# Altium schematic symbol library Logic.SchLib: 13 symbols (part 2 of 4)
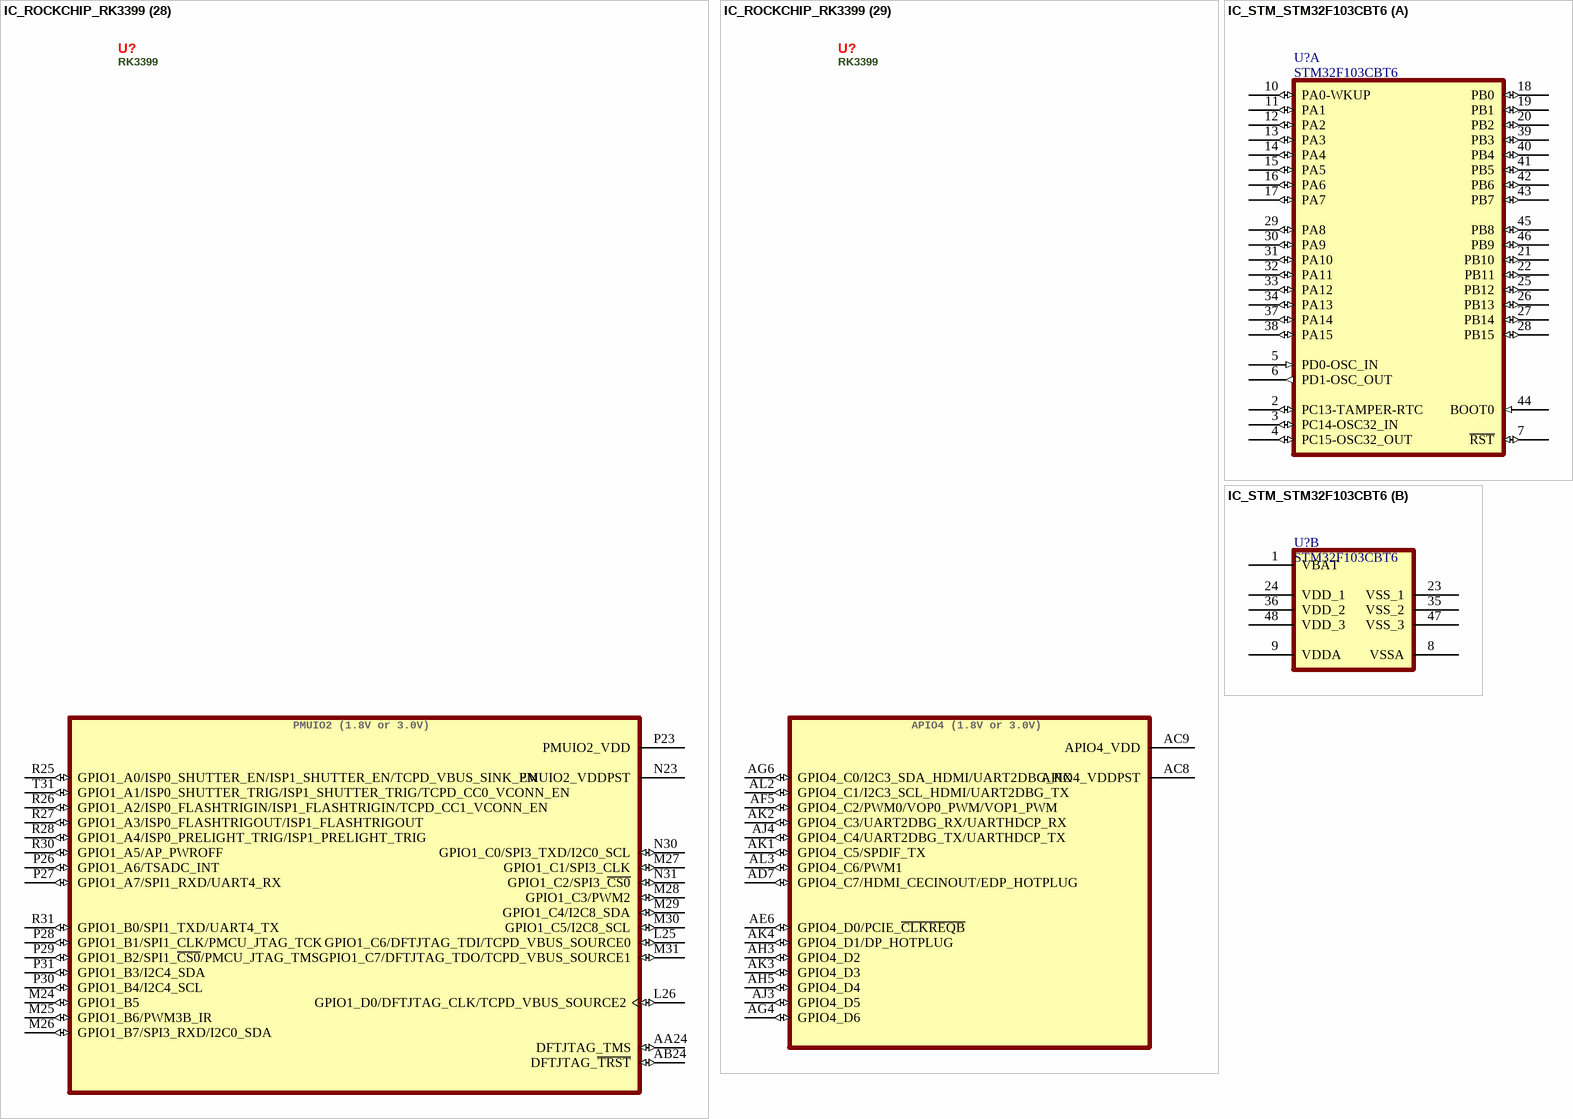
[diagram p9: symbols IC_ROCKCHIP_RK3399 to IC_STM_STM32F103CBT6]
## IC_ROCKCHIP_RK3399
designator U?, comment RK3399
ARM® Cortex®-A72 dual-core and A53 quad-core Microcontroller; Manufacturer: Fuzhou Rockchip Electronics; Core Architecture: ARM; Manufacturer Part Number: RK3399; Case/Package: 828-FCBGA; Category: Microcontrollers; ComponentLink1Description: Datasheet; ComponentLink1URL: https://rockchip.fr/RK3399%20datasheet%20V1.8.pdf; ComponentLink2Description: Design Guide; ComponentLink2URL: https://opensource.rock-chips.com/images/d/d1/RK3399_Design_Guide_V1.0_20170420.pdf; ComponentLink3Description: Datasheet (Local); ComponentLink3URL: C:\Users\Public\Documents\Altium\Projects\My-PCB-Library\Datasheets\RK3399 datasheet V1.8.pdf; ComponentLink4Description: Design Guide (Local); ComponentLink4URL: C:\Users\Public\Documents\Altium\Projects\My-PCB-Library\Datasheets\RK3399_Design_Guide_V1.0_20170420.pdf; Max Operating Temperature: 85°C
footprint BGA828C65P31X31_2102X2102X161 (BGA, 828-Leads, Body 21.03x21.03mmx1.61mm, Pitch 0.65mm)
part A pins: K19 BIGCPU_VDD_12 (power) "Internal BIG CPU A72 Power", K21 BIGCPU_VDD_13 (power) "Internal BIG CPU A72 Power", L18 BIGCPU_VDD_8 (power) "Internal BIG CPU A72 Power", L19 BIGCPU_VDD_1 (power) "Internal BIG CPU A72 Power", L21 BIGCPU_VDD_2 (power) "Internal BIG CPU A72 Power", L23 BIGCPU_VDD_11 (power) "Internal BIG CPU A72 Power", M18 BIGCPU_VDD_3 (power) "Internal BIG CPU A72 Power", M19 BIGCPU_VDD_4 (power) "Internal BIG CPU A72 Power", M20 BIGCPU_VDD_5 (power) "Internal BIG CPU A72 Power", M21 BIGCPU_VDD_6 (power) "Internal BIG CPU A72 Power", M22 BIGCPU_VDD_7 (power) "Internal BIG CPU A72 Power", N18 BIGCPU_VDD_COM (power) "Internal BIG CPU A72 Power", N20 BIGCPU_VDD_10 (power) "Internal BIG CPU A72 Power", N22 BIGCPU_VDD_9 (power) "Internal BIG CPU A72 Power"
part B pins: P20 LITCPU_VDD_1 (power) "Internal  LITTLE CPU A53 Power", P22 LITCPU_VDD_4 (power) "Internal  LITTLE CPU A53 Power", R19 LITCPU_VDD_2 (power) "Internal  LITTLE CPU A53 Power", R20 LITCPU_VDD_3 (power) "Internal  LITTLE CPU A53 Power", R22 LITCPU_VDD_7 (power) "Internal  LITTLE CPU A53 Power", T20 LITCPU_VDD_6 (power) "Internal  LITTLE CPU A53 Power", T22 LITCPU_VDD_5 (power) "Internal  LITTLE CPU A53 Power"
part C pins: R11 GPU_VDD_8 (power) "Internal GPU Power", R12 GPU_VDD_9 (power) "Internal GPU Power", R13 GPU_VDD_13 (power) "Internal GPU Power", T11 GPU_VDD_10 (power) "Internal GPU Power", T12 GPU_VDD_11 (power) "Internal GPU Power", T13 GPU_VDD_12 (power) "Internal GPU Power", T14 GPU_VDD_14 (power) "Internal GPU Power", T15 GPU_VDD_COM (power) "Internal GPU Power", U13 GPU_VDD_7 (power) "Internal GPU Power", V11 GPU_VDD_15 (power) "Internal GPU Power", V12 GPU_VDD_16 (power) "Internal GPU Power", V13 GPU_VDD_6 (power) "Internal GPU Power", V14 GPU_VDD_5 (power) "Internal GPU Power", V15 GPU_VDD_4 (power) "Internal GPU Power", V16 GPU_VDD_17 (power) "Internal GPU Power", W10 GPU_VDD_20 (power) "Internal GPU Power", W11 GPU_VDD_1 (power) "Internal GPU Power", W12 GPU_VDD_2 (power) "Internal GPU Power", W14 GPU_VDD_3 (power) "Internal GPU Power", W15 GPU_VDD_19 (power) "Internal GPU Power", W16 GPU_VDD_18 (power) "Internal GPU Power"
part D pins: L17 LOGIC_VDD_10 (power) "Internal Logic Power", M17 LOGIC_VDD_9 (power) "Internal Logic Power", T17 LOGIC_VDD_11 (power) "Internal Logic Power", U17 LOGIC_VDD_8 (power) "Internal Logic Power", U18 LOGIC_VDD_7 (power) "Internal Logic Power", U20 LOGIC_VDD_12 (power) "Internal Logic Power", V18 LOGIC_VDD_5 (power) "Internal Logic Power", V19 LOGIC_VDD_4 (power) "Internal Logic Power", V20 LOGIC_VDD_3 (power) "Internal Logic Power", V21 LOGIC_VDD_2 (power) "Internal Logic Power", V22 LOGIC_VDD_1 (power) "Internal Logic Power", W20 LOGIC_VDD_6 (power) "Internal Logic Power"
part E pins: M11 CENTERLOGIC_VDD_1 (power) "Internal Center Logic Power", M12 CENTERLOGIC_VDD_2 (power) "Internal Center Logic Power", M13 CENTERLOGIC_VDD_3 (power) "Internal Center Logic Power", M14 CENTERLOGIC_VDD_4 (power) "Internal Center Logic Power", M15 CENTERLOGIC_VDD_5 (power) "Internal Center Logic Power", N11 CENTERLOGIC_VDD_6 (power) "Internal Center Logic Power", N12 CENTERLOGIC_VDD_7 (power) "Internal Center Logic Power", P13 CENTERLOGIC_VDD_8 (power) "Internal Center Logic Power", P14 CENTERLOGIC_VDD_9 (power) "Internal Center Logic Power", P15 CENTERLOGIC_VDD_10 (power) "Internal Center Logic Power"
part F pins: A1 VSS_1 (power) "Internal Logic Ground and Digital IO Ground", A27 VSS_2 (power) "Internal Logic Ground and Digital IO Ground", A31 VSS_3 (power) "Internal Logic Ground and Digital IO Ground", AA3 VSS_4 (power) "Internal Logic Ground and Digital IO Ground", AA5 VSS_5 (power) "Internal Logic Ground and Digital IO Ground", AA9 VSS_6 (power) "Internal Logic Ground and Digital IO Ground", AA10 VSS_179 (power) "Internal Logic Ground and Digital IO Ground", AA13 VSS_177 (power) "Internal Logic Ground and Digital IO Ground", AB9 VSS_9 (power) "Internal Logic Ground and Digital IO Ground", AB19 VSS_140 (power) "Internal Logic Ground and Digital IO Ground", AC3 VSS_16 (power) "Internal Logic Ground and Digital IO Ground", AC18 VSS_145 (power) "Internal Logic Ground and Digital IO Ground", AC20 VSS_13 (power) "Internal Logic Ground and Digital IO Ground", AC21 VSS_132 (power) "Internal Logic Ground and Digital IO Ground", AC22 VSS_12 (power) "Internal Logic Ground and Digital IO Ground", AD3 VSS_17 (power) "Internal Logic Ground and Digital IO Ground", AD5 VSS_18 (power) "Internal Logic Ground and Digital IO Ground", AD10 VSS_19 (power) "Internal Logic Ground and Digital IO Ground", AD21 VSS_163 (power) "Internal Logic Ground and Digital IO Ground", AD22 VSS_11 (power) "Internal Logic Ground and Digital IO Ground", AE23 VSS_14 (power) "Internal Logic Ground and Digital IO Ground", AF9 VSS_20 (power) "Internal Logic Ground and Digital IO Ground", AF18 VSS_7 (power) "Internal Logic Ground and Digital IO Ground", AF20 VSS_10 (power) "Internal Logic Ground and Digital IO Ground", AG2 VSS_21 (power) "Internal Logic Ground and Digital IO Ground", AJ5 VSS_22 (power) "Internal Logic Ground and Digital IO Ground", AJ20 VSS_180 (power) "Internal Logic Ground and Digital IO Ground", AJ21 VSS_172 (power) "Internal Logic Ground and Digital IO Ground", AJ23 VSS_173 (power) "Internal Logic Ground and Digital IO Ground", AJ24 VSS_174 (power) "Internal Logic Ground and Digital IO Ground", AJ26 VSS_175 (power) "Internal Logic Ground and Digital IO Ground", AJ27 VSS_176 (power) "Internal Logic Ground and Digital IO Ground", AJ28 VSS_171 (power) "Internal Logic Ground and Digital IO Ground", AL1 VSS_23 (power) "Internal Logic Ground and Digital IO Ground", AL31 VSS_178 (power) "Internal Logic Ground and Digital IO Ground", B5 VSS_24 (power) "Internal Logic Ground and Digital IO Ground", C8 VSS_25 (power) "Internal Logic Ground and Digital IO Ground", C9 VSS_26 (power) "Internal Logic Ground and Digital IO Ground", C11 VSS_27 (power) "Internal Logic Ground and Digital IO Ground", C12 VSS_28 (power) "Internal Logic Ground and Digital IO Ground", C14 VSS_29 (power) "Internal Logic Ground and Digital IO Ground", C15 VSS_30 (power) "Internal Logic Ground and Digital IO Ground", C17 VSS_31 (power) "Internal Logic Ground and Digital IO Ground", C18 VSS_32 (power) "Internal Logic Ground and Digital IO Ground", C20 VSS_33 (power) "Internal Logic Ground and Digital IO Ground", C21 VSS_34 (power) "Internal Logic Ground and Digital IO Ground", C23 VSS_35 (power) "Internal Logic Ground and Digital IO Ground", C24 VSS_36 (power) "Internal Logic Ground and Digital IO Ground", C26 VSS_37 (power) "Internal Logic Ground and Digital IO Ground", D5 VSS_38 (power) "Internal Logic Ground and Digital IO Ground", E2 VSS_39 (power) "Internal Logic Ground and Digital IO Ground", E4 VSS_40 (power) "Internal Logic Ground and Digital IO Ground", E7 VSS_41 (power) "Internal Logic Ground and Digital IO Ground", E12 VSS_42 (power) "Internal Logic Ground and Digital IO Ground", E15 VSS_43 (power) "Internal Logic Ground and Digital IO Ground", E18 VSS_44 (power) "Internal Logic Ground and Digital IO Ground", E21 VSS_45 (power) "Internal Logic Ground and Digital IO Ground", E24 VSS_46 (power) "Internal Logic Ground and Digital IO Ground", E31 VSS_47 (power) "Internal Logic Ground and Digital IO Ground", F8 VSS_48 (power) "Internal Logic Ground and Digital IO Ground", F15 VSS_49 (power) "Internal Logic Ground and Digital IO Ground", F18 VSS_50 (power) "Internal Logic Ground and Digital IO Ground", F20 VSS_51 (power) "Internal Logic Ground and Digital IO Ground", F21 VSS_52 (power) "Internal Logic Ground and Digital IO Ground", G5 VSS_53 (power) "Internal Logic Ground and Digital IO Ground", G9 VSS_54 (power) "Internal Logic Ground and Digital IO Ground", G18 VSS_55 (power) "Internal Logic Ground and Digital IO Ground", G27 VSS_56 (power) "Internal Logic Ground and Digital IO Ground", H3 VSS_57 (power) "Internal Logic Ground and Digital IO Ground", H9 VSS_58 (power) "Internal Logic Ground and Digital IO Ground", H10 VSS_59 (power) "Internal Logic Ground and Digital IO Ground", H11 VSS_60 (power) "Internal Logic Ground and Digital IO Ground", H12 VSS_61 (power) "Internal Logic Ground and Digital IO Ground", H13 VSS_62 (power) "Internal Logic Ground and Digital IO Ground", H15 VSS_63 (power) "Internal Logic Ground and Digital IO Ground", H16 VSS_64 (power) "Internal Logic Ground and Digital IO Ground", H17 VSS_65 (power) "Internal Logic Ground and Digital IO Ground", H18 VSS_66 (power) "Internal Logic Ground and Digital IO Ground", H26 VSS_67 (power) "Internal Logic Ground and Digital IO Ground", J3 VSS_68 (power) "Internal Logic Ground and Digital IO Ground", J6 VSS_69 (power) "Internal Logic Ground and Digital IO Ground", J7 VSS_70 (power) "Internal Logic Ground and Digital IO Ground", J8 VSS_71 (power) "Internal Logic Ground and Digital IO Ground", J9 VSS_72 (power) "Internal Logic Ground and Digital IO Ground", J10 VSS_73 (power) "Internal Logic Ground and Digital IO Ground", K8 VSS_74 (power) "Internal Logic Ground and Digital IO Ground", K9 VSS_75 (power) "Internal Logic Ground and Digital IO Ground", K10 VSS_76 (power) "Internal Logic Ground and Digital IO Ground", K12 VSS_77 (power) "Internal Logic Ground and Digital IO Ground", K14 VSS_78 (power) "Internal Logic Ground and Digital IO Ground", K16 VSS_79 (power) "Internal Logic Ground and Digital IO Ground", K18 VSS_80 (power) "Internal Logic Ground and Digital IO Ground", K20 VSS_82 (power) "Internal Logic Ground and Digital IO Ground", K22 VSS_84 (power) "Internal Logic Ground and Digital IO Ground", L3 VSS_85 (power) "Internal Logic Ground and Digital IO Ground", L6 VSS_86 (power) "Internal Logic Ground and Digital IO Ground", L8 VSS_87 (power) "Internal Logic Ground and Digital IO Ground", L11 VSS_88 (power) "Internal Logic Ground and Digital IO Ground", L12 VSS_89 (power) "Internal Logic Ground and Digital IO Ground", L13 VSS_90 (power) "Internal Logic Ground and Digital IO Ground", L14 VSS_91 (power) "Internal Logic Ground and Digital IO Ground", L15 VSS_92 (power) "Internal Logic Ground and Digital IO Ground", L16 VSS_93 (power) "Internal Logic Ground and Digital IO Ground", L20 VSS_96 (power) "Internal Logic Ground and Digital IO Ground", L22 VSS_97 (power) "Internal Logic Ground and Digital IO Ground", L27 VSS_99 (power) "Internal Logic Ground and Digital IO Ground", M3 VSS_100 (power) "Internal Logic Ground and Digital IO Ground", M8 VSS_101 (power) "Internal Logic Ground and Digital IO Ground", M10 VSS_102 (power) "Internal Logic Ground and Digital IO Ground", M16 VSS_103 (power) "Internal Logic Ground and Digital IO Ground", M23 VSS_104 (power) "Internal Logic Ground and Digital IO Ground", N8 VSS_105 (power) "Internal Logic Ground and Digital IO Ground", N13 VSS_108 (power) "Internal Logic Ground and Digital IO Ground", N14 VSS_109 (power) "Internal Logic Ground and Digital IO Ground", N15 VSS_110 (power) "Internal Logic Ground and Digital IO Ground", N16 VSS_111 (power) "Internal Logic Ground and Digital IO Ground", N17 VSS_94 (power) "Internal Logic Ground and Digital IO Ground", N19 VSS_83 (power) "Internal Logic Ground and Digital IO Ground", N21 VSS_98 (power) "Internal Logic Ground and Digital IO Ground", P3 VSS_112 (power) "Internal Logic Ground and Digital IO Ground", P6 VSS_113 (power) "Internal Logic Ground and Digital IO Ground", P7 VSS_114 (power) "Internal Logic Ground and Digital IO Ground", P8 VSS_115 (power) "Internal Logic Ground and Digital IO Ground", P10 VSS_116 (power) "Internal Logic Ground and Digital IO Ground", P11 VSS_106 (power) "Internal Logic Ground and Digital IO Ground", P12 VSS_107 (power) "Internal Logic Ground and Digital IO Ground", P16 VSS_117 (power) "Internal Logic Ground and Digital IO Ground", P19 VSS_119 (power) "Internal Logic Ground and Digital IO Ground", P21 VSS_121 (power) "Internal Logic Ground and Digital IO Ground", R3 VSS_123 (power) "Internal Logic Ground and Digital IO Ground", R5 VSS_124 (power) "Internal Logic Ground and Digital IO Ground", R6 VSS_125 (power) "Internal Logic Ground and Digital IO Ground", R14 VSS_129 (power) "Internal Logic Ground and Digital IO Ground", R15 VSS_130 (power) "Internal Logic Ground and Digital IO Ground", R16 VSS_131 (power) "Internal Logic Ground and Digital IO Ground", R18 VSS_165 (power) "Internal Logic Ground and Digital IO Ground", R21 VSS_120 (power) "Internal Logic Ground and Digital IO Ground", R23 VSS_133 (power) "Internal Logic Ground and Digital IO Ground", T8 VSS_134 (power) "Internal Logic Ground and Digital IO Ground", T10 VSS_135 (power) "Internal Logic Ground and Digital IO Ground", T16 VSS_138 (power) "Internal Logic Ground and Digital IO Ground", T18 VSS_168 (power) "Internal Logic Ground and Digital IO Ground", T19 VSS_122 (power) "Internal Logic Ground and Digital IO Ground", T21 VSS_139 (power) "Internal Logic Ground and Digital IO Ground", U3 VSS_141 (power) "Internal Logic Ground and Digital IO Ground", U8 VSS_142 (power) "Internal Logic Ground and Digital IO Ground", U11 VSS_126 (power) "Internal Logic Ground and Digital IO Ground", U12 VSS_127 (power) "Internal Logic Ground and Digital IO Ground", U14 VSS_137 (power) "Internal Logic Ground and Digital IO Ground", U15 VSS_143 (power) "Internal Logic Ground and Digital IO Ground", U16 VSS_144 (power) "Internal Logic Ground and Digital IO Ground", U19 VSS_146 (power) "Internal Logic Ground and Digital IO Ground", U21 VSS_147 (power) "Internal Logic Ground and Digital IO Ground", U22 VSS_149 (power) "Internal Logic Ground and Digital IO Ground", U29 VSS_150 (power) "Internal Logic Ground and Digital IO Ground", V3 VSS_151 (power) "Internal Logic Ground and Digital IO Ground", V5 VSS_152 (power) "Internal Logic Ground and Digital IO Ground", V8 VSS_153 (power) "Internal Logic Ground and Digital IO Ground", V10 VSS_154 (power) "Internal Logic Ground and Digital IO Ground", V17 VSS_148 (power) "Internal Logic Ground and Digital IO Ground", W8 VSS_161 (power) "Internal Logic Ground and Digital IO Ground", W9 VSS_162 (power) "Internal Logic Ground and Digital IO Ground", W13 VSS_128 (power) "Internal Logic Ground and Digital IO Ground", W17 VSS_159 (power) "Internal Logic Ground and Digital IO Ground", W18 VSS_169 (power) "Internal Logic Ground and Digital IO Ground", W19 VSS_167 (power) "Internal Logic Ground and Digital IO Ground", W21 VSS_81 (power) "Internal Logic Ground and Digital IO Ground", W22 VSS_158 (power) "Internal Logic Ground and Digital IO Ground", W30 VSS_160 (power) "Internal Logic Ground and Digital IO Ground", Y3 VSS_8 (power) "Internal Logic Ground and Digital IO Ground", Y9 VSS_166 (power) "Internal Logic Ground and Digital IO Ground", Y10 VSS_15 (power) "Internal Logic Ground and Digital IO Ground", Y11 VSS_155 (power) "Internal Logic Ground and Digital IO Ground", Y12 VSS_136 (power) "Internal Logic Ground and Digital IO Ground", Y13 VSS_164 (power) "Internal Logic Ground and Digital IO Ground", Y14 VSS_156 (power) "Internal Logic Ground and Digital IO Ground", Y15 VSS_157 (power) "Internal Logic Ground and Digital IO Ground", Y16 VSS_118 (power) "Internal Logic Ground and Digital IO Ground", Y17 VSS_95 (power) "Internal Logic Ground and Digital IO Ground", Y20 VSS_170 (power) "Internal Logic Ground and Digital IO Ground"
part G pins: AA11 AVSS_13 (power) "Analog Ground", AA12 AVSS_17 (power) "Analog Ground", AA14 AVSS_26 (power) "Analog Ground", AA15 AVSS_53 (power) "Analog Ground", AA23 AVSS_4 (power) "Analog Ground", AA26 AVSS_6 (power) "Analog Ground", AA29 AVSS_7 (power) "Analog Ground", AB10 AVSS_12 (power) "Analog Ground", AB11 AVSS_8 (power) "Analog Ground", AB13 AVSS_9 (power) "Analog Ground", AB15 AVSS_42 (power) "Analog Ground", AB16 AVSS_41 (power) "Analog Ground", AB17 AVSS_52 (power) "Analog Ground", AB23 AVSS_5 (power) "Analog Ground", AC11 AVSS_44 (power) "Analog Ground", AC13 AVSS_45 (power) "Analog Ground", AC15 AVSS_10 (power) "Analog Ground", AC16 AVSS_18 (power) "Analog Ground", AC17 AVSS_43 (power) "Analog Ground", AC23 AVSS_19 (power) "Analog Ground", AC25 AVSS_51 (power) "Analog Ground", AC26 AVSS_14 (power) "Analog Ground", AC29 AVSS_15 (power) "Analog Ground", AD13 AVSS_11 (power) "Analog Ground", AD17 AVSS_16 (power) "Analog Ground", AD26 AVSS_40 (power) "Analog Ground", AD29 AVSS_20 (power) "Analog Ground", AE11 AVSS_21 (power) "Analog Ground", AE12 AVSS_22 (power) "Analog Ground", AE14 AVSS_23 (power) "Analog Ground", AE17 AVSS_24 (power) "Analog Ground", AE27 AVSS_25 (power) "Analog Ground", AF17 AVSS_27 (power) "Analog Ground", AF23 AVSS_2 (power) "Analog Ground", AF24 AVSS_3 (power) "Analog Ground", AF29 AVSS_28 (power) "Analog Ground", AG29 AVSS_29 (power) "Analog Ground", AH29 AVSS_30 (power) "Analog Ground", AJ6 AVSS_31 (power) "Analog Ground", AJ8 AVSS_32 (power) "Analog Ground", AJ9 AVSS_33 (power) "Analog Ground", AJ11 AVSS_34 (power) "Analog Ground", AJ12 AVSS_35 (power) "Analog Ground", AJ14 AVSS_36 (power) "Analog Ground", AJ15 AVSS_37 (power) "Analog Ground", AJ17 AVSS_38 (power) "Analog Ground", AJ18 AVSS_39 (power) "Analog Ground", AJ29 AVSS_47 (power) "Analog Ground", U23 AVSS_49 (power) "Analog Ground", V23 AVSS_50 (power) "Analog Ground", W23 AVSS_46 (power) "Analog Ground", Y23 AVSS_1 (power) "Analog Ground"
part H pins: AA19 NC_8 "Not Connected", AA20 NC_9 "Not Connected", AA22 NC_11 "Not Connected", AA25 GPIO0_A4/SDIO0_~{INT} (io) "GPIO0_A4 // SDIO0_INTn (SDIO Card Interrupt Indication", AB20 NC_10 "Not Connected", AB22 NC_1 "Not Connected", AC12 NC_7 "Not Connected", AC14 NC_4 "Not Connected", AD11 NC_2 "Not Connected", AD12 NC_3 "Not Connected", AD14 NC_5 "Not Connected", AD15 NC_6 "Not Connected", AD23 EFUSE_VQPS (power) "eFuse IO Digital Power", N24 GPIO0_A2/WIFI_26MHZ (io) "GPIO0_A2 // WIFI_26MHz (26MHz Clock out for WIFI Chip)", P17 PLL_AVSS (power) "PLL Analog Ground", P18 PLL_AVDD_1V8 (power) "PLL 1.8V Analog Power", P24 GPIO0_B5/TCPD_VBUS_FDIS/TCPD_VBUS_SOURCE3 (io) "GPIO0_B5 // TCPD_VBUS_FDIS // TCPD_VBUS_SOURCE3", P25 GPIO0_A6/PWM3A_IR (io) "GPIO0_A6 // PWMA3_IR (Pulse Width Modulation Output, special design for IR receiver)", R17 PLL_AVDD_0V9 (power) "PLL 0.9V Analog Power", R24 PMUIO1_VDD_1V8 (power) "PMUIO1 Domain IO Power", R29 GPIO0_A1/DDRIO_PWROFF/TCPD_CCDB_EN (io) "GPIO0_A1 // DDRIO_PWROFF // TCPD_CCDB_EN", T24 PMU_VDD_0V9 (power) "Internal PMU Domain Power", T30 NPOR (in) "Chip Hardware Reset", U25 PMU_VDD_1V8 (power) "Internal PMU Domain Power", U28 GPIO0_B0/SDMMC0_WRPT/TEST_CLKOUT2 (io) "GPIO0_B0 // SDMCC0_WRPT (SDMMC Card Protect) // TEST_CLKOUT2", U30 GPIO0_B3 (io), U31 GPIO0_A0/TEST_CLKOUT0/CLK32K_IN (io) "GPIO0_A0 // TEST_CLKOUT0 // CLK32K_IN (Clock Input of 32.768 KHz)", V26 GPIO0_B4/TCPD_VBUS_BDIS (io) "GPIO0_B4 // TCPD_VBUS_BDIS", V27 GPIO0_A5/EMMC_PWRON (io) "GPIO_A5 // EMMC_PWREN (eMMC Card Power Control)", V28 GPIO0_A7/SDMMC0_DET (io) "GPIO0_A7 // SDMMC0_DET (SDMMC Card Detect Signal, a 0 represents presence of card)", V30 GPIO0_B1/PMUIO2_VOLSEL (io) "GPIO0_B1 / PMUIO2_VOLSEL", V31 GPIO0_A3/SDIO0_WRPT (io) "GPIO0_A3 // SDIO0_WRPT (SDIO Card Write Protect Signal, a 1 represents write is protected", W31 GPIO0_B2 (io), Y29 AVSS_48 (power) "Analog Ground of Crystal Oscillator", Y30 XOUT_OSC (out) "Clock Output of 24MHz Crystal", Y31 XIN_OSC (in) "Clock Input of 24MHz Crystal"
part I pins: A2 DDR1_~{CS1} (out) "Chip Select Signal to the Memory Device. There are two Chip Select", A3 DDR1_A12 (out) "Address Signal to the Memory Device", A4 DDR1_A10 (out) "Address Signal to the Memory Device", A5 DDR1_CKE0 (out) "Clock Enable Signal to the Memory Device for Two Chip Select", A6 DDR1_A9 (out) "Address Signal to the Memory Device", A7 DDR1_A7 (out) "Address Signal to the Memory Device", A8 DDR1_A5 (out) "Address Signal to the Memory Device", A9 DDR1_A3 (out) "Address Signal to the Memory Device", A10 DDR1_A1 (out) "Address Signal to the Memory Device", A11 DDR1_DQ10 (io) "Bi-directional Data Line to the Memory Device", A12 DDR1_DQ12 (io) "Bi-directional Data Line to the Memory Device", A13 DDR1_DQ13 (io) "Bi-directional Data Line to the Memory Device", A14 DDR1_DQ14 (io) "Bi-directional Data Line to the Memory Device", A15 DDR1_DQ1 (io) "Bi-directional Data Line to the Memory Device", A16 DDR1_DQ3 (io) "Bi-directional Data Line to the Memory Device", A17 DDR1_DQ5 (io) "Bi-directional Data Line to the Memory Device", A18 DDR1_DQ6 (io) "Bi-directional Data Line to the Memory Device", A19 DDR1_DQ16 (io) "Bi-directional Data Line to the Memory Device", A20 DDR1_DQ18 (io) "Bi-directional Data Line to the Memory Device", A21 DDR1_DQ20 (io) "Bi-directional Data Line to the Memory Device", A22 DDR1_DQ23 (io) "Bi-directional Data Line to the Memory Device", A23 DDR1_DQ24 (io) "Bi-directional Data Line to the Memory Device", A24 DDR1_DQ26 (io) "Bi-directional Data Line to the Memory Device", A25 DDR1_DQ27 (io) "Bi-directional Data Line to the Memory Device", A26 DDR1_DQ29 (io) "Bi-directional Data Line to the Memory Device", B2 DDR1_BA0 (out) "Bank Address Signal to the Memory Device", B3 DDR1_~{CS3} (out) "Chip Select Signal to the Memory Device. There are two Chip Select", B4 DDR1_A13 (out) "Address Signal to the Memory Device", B6 DDR1_A8 (out) "Address Signal to the Memory Device", B7 DDR1_A6 (out) "Address Signal to the Memory Device", B8 DDR1_A4 (out) "Address Signal to the Memory Device", B9 DDR1_A2 (out) "Address Signal to the Memory Device", B10 DDR1_A0 (out) "Address Signal to the Memory Device", B11 DDR1_DQ8 (io) "Bi-directional Data Line to the Memory Device", B12 DDR1_DQ9 (io) "Bi-directional Data Line to the Memory Device", B13 DDR1_DQ11 (io) "Bi-directional Data Line to the Memory Device", B14 DDR1_DQ15 (io) "Bi-directional Data Line to the Memory Device", B15 DDR1_DQ0 (io) "Bi-directional Data Line to the Memory Device", B16 DDR1_DQ2 (io) "Bi-directional Data Line to the Memory Device", B17 DDR1_DQ4 (io) "Bi-directional Data Line to the Memory Device", B18 DDR1_DQ7 (io) "Bi-directional Data Line to the Memory Device", B19 DDR1_DQ17 (io) "Bi-directional Data Line to the Memory Device", B20 DDR1_DQ19 (io) "Bi-directional Data Line to the Memory Device", B21 DDR1_DQ21 (io) "Bi-directional Data Line to the Memory Device", B22 DDR1_DQ22 (io) "Bi-directional Data Line to the Memory Device", B23 DDR1_DQ25 (io) "Bi-directional Data Line to the Memory Device", B24 DDR1_DQ28 (io) "Bi-directional Data Line to the Memory Device", B25 DDR1_DQ30 (io) "Bi-directional Data Line to the Memory Device", B26 DDR1_DQ31 (io) "Bi-directional Data Line to the Memory Device", C4 DDR1_A14 (out) "Address Signal to the Memory Device", C5 DDR1_A11 (out) "Address Signal to the Memory Device", C6 DDR1_~{RAS} (out) "Row Address Strobe to the Memory Device", D6 DDR1_BA1 (out) "Bank Address Signal to the Memory Device", D8 DDR1_CLK0N (out) "Differential Clock Signal to the Memory Device", D9 DDR1_CLK0P (out) "Differential Clock Signal to the Memory Device", D11 DDR1_ODT0 (out) "On-Die Termination Output Signal for two Chip Select", D12 DDR1_BA2 (out) "Bank Address Signal to the Memory Device", D14 DDR1_DQS1N (io) "Differential Data Strobe To/From the Memories", D15 DDR1_DQS1P (io) "Differential Data Strobe To/From the Memories", D17 DDR1_DQS0N (io) "Differential Data Strobe To/From the Memories", D18 DDR1_DQS0P (io) "Differential Data Strobe To/From the Memories", D20 DDR1_DQS2N (io) "Differential Data Strobe To/From the Memories", D21 DDR1_DQS2P (io) "Differential Data Strobe To/From the Memories", D23 DDR1_DQS3N (io) "Differential Data Strobe To/From the Memories", D24 DDR1_DQS3P (io) "Differential Data Strobe To/From the Memories", E6 DDR1_CKE1 (out) "Clock Enable Signal to the Memory Device for Two Chip Select", E8 DDR1_CLK1N (out) "Differential Clock Signal to the Memory Device", E9 DDR1_CLK1P (out) "Differential Clock Signal to the Memory Device", E11 DDR1_ODT1 (out) "On-Die Termination Output Signal for two Chip Select", E14 DDR1_~{DM1} (out) "Data Mask Signal to the Memory Device", E17 DDR1_~{DM0} (out) "Data Mask Signal to the Memory Device", E20 DDR1_~{DM2} (out) "Data Mask Signal to the Memory Device", E23 DDR1_~{DM3} (out) "Data Mask Signal to the Memory Device", F7 DDR1_~{WE} (out) "Write Enable Strobe to the Memory Device", F9 DDR1_~{CAS} (out) "Column Address Strobe to the Memory Device", F11 DDR1_~{CS2} (out) "Chip Select Signal to the Memory Device. There are two Chip Select", F12 DDR1_~{CS0} (out) "Chip Select Signal to the Memory Device. There are two Chip Select", F14 DDR1_PLL_TESTOUT_P (out) "DDR PLL Test Point", F17 DDR1_ATB0 (out) "Analog Test Bus Signal", G8 DDR1_A15 (out) "Address Signal to the Memory Device", G11 DDR1_~{RESET} (out) "DDR Reset Signal to the Memory Device", G12 DDR1_CLK_VDD (power) "DDR0 Clock IO Power", G14 DDR1_PLL_TESTOUT_N (out) "DDR PLL Test Point", G15 DDR1_PZQ (io) "ZQ Calibration Pad which connects 240R 1%  Resistor", G17 DDR1_ATB1 (out) "Analog Test Bus Signal", H14 DDR1PLL_AVDD_0V9 (power) "DDR0 PHY PLL Power", J11 DDR1_VDD_1 (power) "DDR0 Digital IO Power", J12 DDR1_VDD_2 (power) "DDR0 Digital IO Power", J13 DDR1_VDD_3 (power) "DDR0 Digital IO Power", J14 DDR1_VDD_4 (power) "DDR0 Digital IO Power", J15 DDR1_VDD_5 (power) "DDR0 Digital IO Power", J16 DDR1_VDD_6 (power) "DDR0 Digital IO Power", J17 DDR1_VDD_7 (power) "DDR0 Digital IO Power", J18 DDR1_VDD_8 (power) "DDR0 Digital IO Power", K11 DDR1_VDD_9 (power) "DDR0 Digital IO Power", K13 DDR1_VDD_10 (power) "DDR0 Digital IO Power", K15 DDR1_VDD_11 (power) "DDR0 Digital IO Power", K17 DDR1_VDD_12 (power) "DDR0 Digital IO Power"
part J pins: AA1 DDR0_DQ3 (io) "Bi-directional Data Line to the Memory Device", AA2 DDR0_DQ2 (io) "Bi-directional Data Line to the Memory Device", AA4 DDR0_DQS0N (io) "Differential Data Strobe To/From the Memories", AB1 DDR0_DQ1 (io) "Bi-directional Data Line to the Memory Device", AB2 DDR0_DQ0 (io) "Bi-directional Data Line to the Memory Device", AC1 DDR0_DQ14 (io) "Bi-directional Data Line to the Memory Device", AC2 DDR0_DQ15 (io) "Bi-directional Data Line to the Memory Device", AC4 DDR0_DQS1P (io) "Differential Data Strobe To/From the Memories", AC5 DDR0_~{DM1} (out) "Data Mask Signal to the Memory Device", AD1 DDR0_DQ13 (io) "Bi-directional Data Line to the Memory Device", AD2 DDR0_DQ11 (io) "Bi-directional Data Line to the Memory Device", AD4 DDR0_DQS1N (io) "Differential Data Strobe To/From the Memories", AE1 DDR0_DQ12 (io) "Bi-directional Data Line to the Memory Device", AE2 DDR0_DQ9 (io) "Bi-directional Data Line to the Memory Device", AF1 DDR0_DQ10 (io) "Bi-directional Data Line to the Memory Device", AF2 DDR0_DQ8 (io) "Bi-directional Data Line to the Memory Device", B1 DDR0_~{CS1} (out) "Chip Select Signal to the Memory Device. There are two Chip Select", C1 DDR0_A12 (out) "Address Signal to the Memory Device", C2 DDR0_~{CS3} (out) "Chip Select Signal to the Memory Device. There are two Chip Select", C3 DDR0_BA0 (out) "Bank Address Signal to the Memory Device", D1 DDR0_A10 (out) "Address Signal to the Memory Device", D2 DDR0_A13 (out) "Address Signal to the Memory Device", D3 DDR0_A14 (out) "Address Signal to the Memory Device", E1 DDR0_CKE0 (out) "Clock Enable Signal to the Memory Device for Two Chip Select", E3 DDR0_A11 (out) "Address Signal to the Memory Device", F1 DDR0_A1 (out) "Address Signal to the Memory Device", F2 DDR0_A0 (out) "Address Signal to the Memory Device", F3 DDR0_~{RAS} (out) "Row Address Strobe to the Memory Device", F4 DDR0_BA1 (out) "Bank Address Signal to the Memory Device", F5 DDR0_CKE1 (out) "Clock Enable Signal to the Memory Device for Two Chip Select", G1 DDR0_A2 (out) "Address Signal to the Memory Device", G2 DDR0_A3 (out) "Address Signal to the Memory Device", G6 DDR0_~{WE} (out) "Write Enable Strobe to the Memory Device", H1 DDR0_A5 (out) "Address Signal to the Memory Device", H2 DDR0_A4 (out) "Address Signal to the Memory Device", H4 DDR0_CLK0P (out) "Differential Clock Signal to the Memory Device", H5 DDR0_CLK1P (out) "Differential Clock Signal to the Memory Device", H6 DDR0_~{CAS} (out) "Column Address Strobe to the Memory Device", H7 DDR0_A15 (out) "Address Signal to the Memory Device", J1 DDR0_A6 (out) "Address Signal to the Memory Device", J2 DDR0_A7 (out) "Address Signal to the Memory Device", J4 DDR0_CLK0N (out) "Differential Clock Signal to the Memory Device", J5 DDR0_CLK1N (out) "Differential Clock Signal to the Memory Device", K1 DDR0_A9 (out) "Address Signal to the Memory Device", K2 DDR0_A8 (out) "Address Signal to the Memory Device", L1 DDR0_DQ29 (io) "Bi-directional Data Line to the Memory Device", L2 DDR0_DQ31 (io) "Bi-directional Data Line to the Memory Device", L4 DDR0_ODT0 (out) "On-Die Termination Output Signal for two Chip Select", L5 DDR0_ODT1 (out) "On-Die Termination Output Signal for two Chip Select", L7 DDR0_~{RESET} (out) "DDR Reset Signal to the Memory Device", L9 DDR0_VDD_1 (power) "DDR0 Digital IO Power", L10 DDR0_VDD_2 (power) "DDR0 Digital IO Power", M1 DDR0_DQ27 (io) "Bi-directional Data Line to the Memory Device", M2 DDR0_DQ30 (io) "Bi-directional Data Line to the Memory Device", M4 DDR0_BA2 (out) "Bank Address Signal to the Memory Device", M5 DDR0_~{CS2} (out) "Chip Select Signal to the Memory Device. There are two Chip Select", M6 DDR0_~{CS0} (out) "Chip Select Signal to the Memory Device. There are two Chip Select", M7 DDR0_CLK_VDD (power) "DDR0 Clock IO Power", M9 DDR0_VDD_3 (power) "DDR0 Digital IO Power", N1 DDR0_DQ26 (io) "Bi-directional Data Line to the Memory Device", N2 DDR0_DQ28 (io) "Bi-directional Data Line to the Memory Device", N9 DDR0_VDD_4 (power) "DDR0 Digital IO Power", N10 DDR0_VDD_5 (power) "DDR0 Digital IO Power", P1 DDR0_DQ24 (io) "Bi-directional Data Line to the Memory Device", P2 DDR0_DQ25 (io) "Bi-directional Data Line to the Memory Device", P4 DDR0_DQS3P (io) "Differential Data Strobe To/From the Memories", P5 DDR0_~{DM3} (out) "Data Mask Signal to the Memory Device", P9 DDR0_VDD_6 (power) "DDR0 Digital IO Power", R1 DDR0_DQ23 (io) "Bi-directional Data Line to the Memory Device", R2 DDR0_DQ22 (io) "Bi-directional Data Line to the Memory Device", R4 DDR0_DQS3N (io) "Differential Data Strobe To/From the Memories", R7 DDR0_PZQ (io) "ZQ Calibration Pad which connects 240R 1%  Resistor", R8 DDR0PLL_AVDD_0V9 (power) "DDR0 PHY PLL Power", R9 DDR0_VDD_7 (power) "DDR0 Digital IO Power", R10 DDR0_VDD_8 (power) "DDR0 Digital IO Power", T1 DDR0_DQ20 (io) "Bi-directional Data Line to the Memory Device", T2 DDR0_DQ21 (io) "Bi-directional Data Line to the Memory Device", T9 DDR0_VDD_9 (power) "DDR0 Digital IO Power", U1 DDR0_DQ18 (io) "Bi-directional Data Line to the Memory Device", U2 DDR0_DQ19 (io) "Bi-directional Data Line to the Memory Device", U4 DDR0_DQS2P (io) "Differential Data Strobe To/From the Memories", U5 DDR0_~{DM2} (out) "Data Mask Signal to the Memory Device", U6 DDR0_ATB0 (out) "Analog Test Bus Signal", U7 DDR0_ATB1 (out) "Analog Test Bus Signal", U9 DDR0_VDD_10 (power) "DDR0 Digital IO Power", U10 DDR0_VDD_11 (power) "DDR0 Digital IO Power", V1 DDR0_DQ16 (io) "Bi-directional Data Line to the Memory Device", V2 DDR0_DQ17 (io) "Bi-directional Data Line to the Memory Device", V4 DDR0_DQS2N (io) "Differential Data Strobe To/From the Memories", V6 DDR0_PLL_TESTOUT_P (out) "DDR PLL Test Point", V7 DDR0_PLL_TESTOUT_N (out) "DDR PLL Test Point", V9 DDR0_VDD_12 (power) "DDR0 Digital IO Power", W1 DDR0_DQ6 (io) "Bi-directional Data Line to the Memory Device", W2 DDR0_DQ7 (io) "Bi-directional Data Line to the Memory Device", Y1 DDR0_DQ5 (io) "Bi-directional Data Line to the Memory Device", Y2 DDR0_DQ4 (io) "Bi-directional Data Line to the Memory Device", Y4 DDR0_DQS0P (io) "Differential Data Strobe To/From the Memories.", Y5 DDR0_~{DM0} (out) "Data Mask Signal to the Memory Device"
part K pins: J25 EMMC_D3 (io) "8 bits Data Lines", J26 EMMC_D4 (io) "8 bits Data Lines", J27 EMMC_D5 (io) "8 bits Data Lines", J28 EMMC_D0 (io) "8 bits Data Lines", J29 EMMC_D1 (io) "8 bits Data Lines", J30 EMMC_D2 (io) "8 bits Data Lines", J31 EMMC_CMD (io) "eMMC CMD Line", K24 EMMC_VDD_1V8 (power) "eMMC Digital Power", K30 EMMC_D7 (io) "8 bits Data Lines", K31 EMMC_STRB (io) "eMMC Strobe Signal", L24 EMMC_COREDLL_0V9 (power) "eMMC Core Digital Power", L28 EMMC_CLK (out) "eMMC Clock", L29 EMMC_CALIO (io) "CALIO connects to 10k +/- 1% Resistor", L30 EMMC_TP (out) "Analog DLL Charge Pump Test Point", L31 EMMC_D6 (io) "8 bits Data Lines"
part L pins: T23 SDMMC0_VDD (power) "SDMMC Digital IO Power", U26 SDMMC0_VDDPST (out) "Pin-Out to External Capacitor", U27 GPIO4_B3/SDMMC0_D3/APJTAG_TMS (io) "GPIO4_B3 // SDMMC0_D3 (SDMMC Card Data Input and Output) // APJTAG_TMS (AP JTAG Interface TMS Input / SWD Interface Data Out)", V25 GPIO4_B5/SDMMC0_CMD/MCUJTAG_TMS (io) "GPIO4_B5 // SDMMC0_CMD (SDMMC Card Command Output and Response Input / MCUJTAG_TMS (MCU JTAG Interface TMS Input / SWD Interface Data Out)", V29 GPIO4_B4/SDMMC0_CLKOUT/MCUJTAG_TCK (io) "GPIO4_B4 // SDMMC0_CLKOUT (SDMMC Card Clock) // MCUJTAG_TCK (MCU JTAG Interface Clock Input / SWD Interface Clock Input)", Y26 GPIO4_B1/SDMMC0_D1/UART2DBG_TX (io) "GPIO4_B1 // SDMMC0_D1 (SDMMC Card Data Input and Output) // UART2DBG_TX (UART Serial Data Output)", Y27 GPIO4_B0/SDMMC0_D0/UART2DBG_RX (io) "GPIO4_B0 // SDMMC0_D0 (SDMMC Card Data Input and Output) // UART2DBG_RX (UART Serial Data Input)", Y28 GPIO4_B2/SDMMC0_D2/APJTAG_TCK (io) "GPIO4_B2 // SDMMC0_D2 (SDMMC Card Data Input and Output) // APJTAG_TCK (AP JTAG Interface Clock Input / SWD Interface Clock Input)"
part M pins: AA27 PCIE_TX2_P (out) "PCIe Differential Data Output Signals", AA28 PCIE_TX2_N (out) "PCIe Differential Data Output Signals", AC27 PCIE_RX2_P (in) "PCIe Differential Data Input Signals", AC28 PCIE_RX2_N (in) "PCIe Differential Data Input Signals", AD27 PCIE_TX3_P (out) "PCIe Differential Data Output Signals", AD28 PCIE_TX3_N (out) "PCIe Differential Data Output Signals", AD30 PCIE_RCLK_100M_N (out) "100MHz Differential Reference Clock Out for PCIe Peripheral", AD31 PCIE_RCLK_100M_P (out) "100MHz Differential Reference Clock Out for PCIe Peripheral", AE30 PCIE_TX0_P (out) "PCIe Differential Data Output Signals", AE31 PCIE_TX0_N (out) "PCIe Differential Data Output Signals", AF27 PCIE_RX3_P (in) "PCIe Differential Data Input Signals", AF28 PCIE_RX3_N (in) "PCIe Differential Data Input Signals", AF30 PCIE_RX0_P (in) "PCIe Differential Data Input Signals", AF31 PCIE_RX0_N (in) "PCIe Differential Data Input Signals", AG30 PCIE_TX1_P (out) "PCIe Differential Data Output Signals", AG31 PCIE_TX1_N (out) "PCIe Differential Data Output Signals", AH30 PCIE_RX1_P (in) "PCIe Differential Data Input Signals", AH31 PCIE_RX1_N (in) "PCIe Differential Data Input Signals", W24 PCIE_AVDD_0V9 (power) "PCIe 0.9V Analog Power", Y24 PCIE_AVDD_1V8 (power) "PCIe 1.8V Analog Power"
part N pins: AC24 ADC_AVDD (power) "SAR-ADC/TSADC Power", AG25 ADC_IN2 (in) "SAR-ADC Input Signal for 3 Channel", AG26 ADC_IN0 (in) "SAR-ADC Input Signal for 3 Channel", AG28 ADC_IN3 (in) "SAR-ADC Input Signal for 3 Channel", AH26 ADC_IN1 (in) "SAR-ADC Input Signal for 3 Channel", AH27 ADC_IN4 (in) "SAR-ADC Input Signal for 3 Channel"
part O pins: AA16 HDMI_AVDD_0V9_1 (power) "HDMI 0.9V Power Supply", AA17 HDMI_AVDD_0V9_2 (power) "HDMI 0.9V Power Supply", AD16 HDMI_AVDD_1V8 (power) "HDMI 1.8V Power Supply", AE15 HDMI_HPD (io) "HDMI Hot Plug Detect", AF15 HDMI_REXT (io) "HDMI Reference Resistor Connection", AK16 HDMI_TCP (out) "HDMI Positive TMDS Diff Line Driver Clock Output", AK17 HDMI_TX0P (out) "HDMI Positive TMDS Diff Line Driver Data Output", AK18 HDMI_TX1P (out) "HDMI Positive TMDS Diff Line Driver Data Output", AK19 HDMI_TX2P (out) "HDMI Positive TMDS Diff Line Driver Data Output", AL16 HDMI_TCN (out) "HDMI Negative TMDS Diff Line Driver Clock Output", AL17 HDMI_TX0N (out) "HDMI Negative TMDS Diff Line Driver Data Output", AL18 HDMI_TX1N (out) "HDMI Negative TMDS Diff Line Driver Data Output", AL19 HDMI_TX2N (out) "HDMI Negative TMDS Diff Line Driver Data Output"
part P pins: AB12 MIPI_TX0_AVDD_1V8 (power) "MIPI TX0 1.8V Power Supply", AF12 MIPI_TX0_REXT (out) "MIPI DSI External Resistor Connection. Recommend to use a 4.02kR E96 Resistor.", AG9 MIPI_TX0_D3P (out) "MIPI DSI Positive Diff Data Line Tranceiver Output", AG11 MIPI_TX0_D2P (out) "MIPI DSI Positive Diff Data Line Tranceiver Output", AG12 MIPI_TX0_CLKP (out) "MIPI DSI Positive Diff Clock Line Tranceiver Output", AG14 MIPI_TX0_D1P (out) "MIPI DSI Positive Diff Data Line Tranceiver Output", AG15 MIPI_TX0_D0P (out) "MIPI DSI Positive Diff Data Line Tranceiver Output", AH9 MIPI_TX0_D3N (out) "MIPI DSI Negative Diff Data Line Tranceiver Output", AH11 MIPI_TX0_D2N (out) "MIPI DSI Negative Diff Data Line Tranceiver Output", AH12 MIPI_TX0_CLKN (out) "MIPI DSI Negative Diff Clock Line Tranceiver Output", AH14 MIPI_TX0_D1N (out) "MIPI DSI Negative Diff Data Line Tranceiver Output", AH15 MIPI_TX0_D0N (out) "MIPI DSI Negative Diff Data Line Tranceiver Output"
part Q pins: AB14 MIPI_RX0_AVDD_1V8 (power) "MIPI RX0 1.8V Power Supply", AF14 MIPI_RX0_REXT (in) "MIPI CSI External Resistor Connection. Recommend to use a 4.02kR E96 Resistor.", AK11 MIPI_RX0_D3P (in) "MIPI CSI Positive Diff Data Line Tranceiver Output", AK12 MIPI_RX0_D2P (in) "MIPI CSI Positive Diff Data Line Tranceiver Output", AK13 MIPI_RX0_CLKP (in) "MIPI CSI Positive Diff Clock Line Tranceiver Output", AK14 MIPI_RX0_D1P (in) "MIPI CSI Positive Diff Data Line Tranceiver Output", AK15 MIPI_RX0_D0P (in) "MIPI CSI Positive Diff Data Line Tranceiver Output", AL11 MIPI_RX0_D3N (in) "MIPI CSI Negative Diff Data Line Tranceiver Output", AL12 MIPI_RX0_D2N (in) "MIPI CSI Negative Diff Data Line Tranceiver Output", AL13 MIPI_RX0_CLKN (in) "MIPI CSI Negative Diff Clock Line Tranceiver Output", AL14 MIPI_RX0_D1N (in) "MIPI CSI Negative Diff Data Line Tranceiver Output", AL15 MIPI_RX0_D0N (in) "MIPI CSI Negative Diff Data Line Tranceiver Output"
part R pins: AC10 MIPI_TX1/RX1_AVDD_1V8 (power) "MIPI TX1/RX1 1.8V Power Supply", AF11 MIPI_TX1/RX1_REXT (io) "MIPI CSI/DSI External Resistor Connection. Recommend to use a 4.02kR E96 Resistor.", AK6 MIPI_TX1/RX1_D0P (io) "MIPI CSI/DSI Positive Diff Data Line Tranceiver Output", AK7 MIPI_TX1/RX1_D1P (io) "MIPI CSI/DSI Positive Diff Data Line Tranceiver Output", AK8 MIPI_TX1/RX1_CLKP (io) "MIPI CSI/DSI Positive Diff Clock Line Tranceiver Output", AK9 MIPI_TX1/RX1_D2P (io) "MIPI CSI/DSI Positive Diff Data Line Tranceiver Output", AK10 MIPI_TX1/RX1_D3P (io) "MIPI CSI/DSI Positive Diff Data Line Tranceiver Output", AL6 MIPI_TX1/RX1_D0N (io) "MIPI CSI/DSI Negative Diff Data Line Tranceiver Output", AL7 MIPI_TX1/RX1_D1N (io) "MIPI CSI/DSI Negative Diff Data Line Tranceiver Output", AL8 MIPI_TX1/RX1_CLKN (io) "MIPI CSI/DSI Negative Diff Clock Line Tranceiver Output", AL9 MIPI_TX1/RX1_D2N (io) "MIPI CSI/DSI Negative Diff Data Line Tranceiver Output", AL10 MIPI_TX1/RX1_D3N (io) "MIPI CSI/DSI Negative Diff Data Line Tranceiver Output"
part S pins: A28 EDP_AUXN (io) "eDP CH-AUX Negativc Diff Input", A29 EDP_TX0N (out) "eDP Data Lane Negative Output", A30 EDP_TX1N (out) "eDP Data Lane Negative Output", B28 EDP_AUXP (io) "eDP CH-AUX Positive Diff Input", B29 EDP_TX0P (out) "eDP Data Lane Positive Output", B30 EDP_TX1P (out) "eDP Data Lane Positive Output", B31 EDP_AVSS_1 (power) "eDP Analog Ground", C28 EDP_AVSS_2 (power) "eDP Analog Ground", C29 EDP_AVSS_3 (power) "eDP Analog Ground", C30 EDP_TX2P (out) "eDP Data Lane Positive Output", C31 EDP_TX2N (out) "eDP Data Lane Negative Output", D29 EDP_AVSS_4 (power) "eDP Analog Ground", D30 EDP_TX3P (out) "eDP Data Lane Positive Output", D31 EDP_TX3N (out) "eDP Data Lane Negative Output", G20 EDP_DC_TP (out) "eDP PHY DC Test Point", G21 EDP_REXT (in) "Let it floating", H19 EDP_AVSS_5 (power) "eDP Analog Ground", H20 EDP_AVDD_0V9 (power) "eDP 0.9V Power Supply", H21 EDP_CLK24M_IN (in) "24MHz Input Reference Clock", J19 EDP_AVDD_1V8_1 (power) "eDP 1.8V Power Supply", J20 EDP_AVDD_1V8_2 (power) "eDP 1.8V Power Supply", J21 EDP_AVSS_6 (power) "eDP Analog Ground"
part T pins: AA30 USB1_DP (io) "USB 2.0 HOST1 Data DP", AA31 USB1_DN (io) "USB 2.0 HOST1 Data DN", AB30 USB0_DP (io) "USB 2.0 HOST0 Data DP", AB31 USB0_DN (io) "USB 2.0 HOST0 Data DN", AC30 USB1_RBIAS (in) "Connect 135R Resistor to GND", AC31 USB0_RBIAS (in) "Connect 135R Resistor to GND", AE26 TYPEC1_ID (in) "USB 2.0 OTG ID Detect. No use in Type-C", AG23 TYPEC0_DP (io) "USB 2.0 OTG0 Data DP", AG24 TYPEC1_DP (io) "USB 2.0 OTG1 Data DP", AH23 TYPEC0_DN (io) "USB 2.0 OTG0 Data DN", AH24 TYPEC1_DN (io) "USB 2.0 OTG1 Data DN", AK30 TYPEC0_U2VBUSDET (in) "USB 2.0 OTG0 Inserted Detect", AK31 TYPEC1_U2VBUSDET (in) "USB 2.0 OTG1 Inserted Detect", AL30 TYPEC0_ID (in) "USB 2.0 OTG ID Detect. No use in Type-C", U24 USB_AVDD_1V8 (power) "USB 2.0 Analog Power", V24 USB_AVDD_0V9 (power) "USB 2.0 Digital Power", Y25 USB_AVDD_3V3 (power) "USB 2.0 Analog Power"
part U pins: AA18 TYPEC0_AVDD_1V8 (power) "Type-C Analog Power", AB18 TYPEC0_AVDD_3V3 (power) "Type-C Analog Power", AD18 TYPEC0_RCLKM (out) "USB 3.0 PHY0 Reference Clock N", AD19 TYPEC0_U3VBUSDET (in) "VBUS BUMP into the PHY for VBUS Monitor", AE18 TYPEC0_RCLKP (out) "USB 3.0 PHY0 Reference Clock P", AG17 TYPEC0_AUXM_PU_PD (io) "USB 3.0 PHY0 Auxiliary Signal DC Bias N", AG18 TYPEC0_REXT (in) "USB 3.0 PHY0 Reference Resistor. Connect a 499R resistor to GND", AG20 TYPEC0_REXT_CC (in) "USB 3.0 PHY0 CC Reference Resistor. Connect a 499R resistor to GND", AH17 TYPEC0_AUXP_PD_PU (io) "USB 3.0 PHY0 Auxiliary Signal DC Bias P", AH18 TYPEC0_CC1 (io) "USB 3.0 PHY0 Configuration Channel 1", AH20 TYPEC0_CC2 (io) "USB 3.0 PHY0 Configuration Channel 2", AK20 TYPEC0_AUXP (io) "USB 3.0 PHY0 Auxiliary Diff Signal P", AK21 TYPEC0_RX1P (io) "USB 3.0 PHY0 SuperSpeed Diff Data Receive 1 P", AK22 TYPEC0_TX1M (out) "USB 3.0 PHY0 SuperSpeed Diff Data Transmit 1 N", AK23 TYPEC0_RX2P (io) "USB 3.0 PHY0 SuperSpeed Diff Data Receive 2 P", AK24 TYPEC0_TX2M (out) "USB 3.0 PHY0 SuperSpeed Diff Data Transmit 2 N", AL20 TYPEC0_AUXM (io) "USB 3.0 PHY0 Auxiliary Diff Signal N", AL21 TYPEC0_RX1M (io) "USB 3.0 PHY0 SuperSpeed Diff Data Receive 1 N", AL22 TYPEC0_TX1P (out) "USB 3.0 PHY0 SuperSpeed Diff Data Transmit 1 P", AL23 TYPEC0_RX2M (io) "USB 3.0 PHY0 SuperSpeed Diff Data Receive 2 N", AL24 TYPEC0_TX2P (out) "USB 3.0 PHY0 SuperSpeed Diff Data Transmit 2 P", Y18 TYPEC0_AVDD_0V9_2 (power) "Type-C Digital Power", Y19 TYPEC0_AVDD_0V9_1 (power) "Type-C Digital Power"
part V pins: AA21 TYPEC1_AVDD_1V8 (power) "Type-C Analog Power", AB21 TYPEC1_AVDD_3V3 (power) "Type-C Analog Power", AC19 TYPEC1_U3VBUSDET (in) "VBUS BUMP into the PHY for VBUS Monitor", AD20 TYPEC1_RCLKM (out) "USB 3.0 PHY1 Reference Clock N", AE20 TYPEC1_RCLKP (out) "USB 3.0 PHY1 Reference Clock P", AE21 TYPEC1_REXT (in) "USB 3.0 PHY1 Reference Resistor. Connect a 499R resistor to GND", AE24 TYPEC1_AUXP_PD_PU (io) "USB 3.0 PHY1 Auxiliary Signal DC Bias P", AF21 TYPEC1_CC2 (io) "USB 3.0 PHY1 Configuration Channel 2", AF25 TYPEC1_AUXM_PU_PD (io) "USB 3.0 PHY1 Auxiliary Signal DC Bias N", AG21 TYPEC1_REXT_CC (in) "USB 3.0 PHY1 CC Reference Resistor. Connect a 499R resistor to GND", AH21 TYPEC1_CC1 (io) "USB 3.0 PHY1 Configuration Channel 1", AK25 TYPEC1_RX1P (io) "USB 3.0 PHY1 SuperSpeed Diff Data Receive 1 P", AK26 TYPEC1_TX1M (out) "USB 3.0 PHY1 SuperSpeed Diff Data Transmit 1 N", AK27 TYPEC1_RX2P (io) "USB 3.0 PHY1 SuperSpeed Diff Data Receive 2 P", AK28 TYPEC1_TX2M (out) "USB 3.0 PHY1 SuperSpeed Diff Data Transmit 2 N", AK29 TYPEC1_AUXP (io) "USB 3.0 PHY1 Auxiliary Diff Signal P", AL25 TYPEC1_RX1M (io) "USB 3.0 PHY1 SuperSpeed Diff Data Receive 1 N", AL26 TYPEC1_TX1P (out) "USB 3.0 PHY1 SuperSpeed Diff Data Transmit 1 P", AL27 TYPEC1_RX2M (io) "USB 3.0 PHY1 SuperSpeed Diff Data Receive 2 N", AL28 TYPEC1_TX2P (out) "USB 3.0 PHY1 SuperSpeed Diff Data Transmit 2 P", AL29 TYPEC1_AUXM (io) "USB 3.0 PHY1 Auxiliary Diff Signal N", Y21 TYPEC1_AVDD_0V9_1 (power) "Type-C Digital Power", Y22 TYPEC1_AVDD_0V9_2 (power) "Type-C Digital Power"
part W pins: AD24 USIC_AVDD_1V2 (power) "USIC 1.2V Power Supply", AD25 USIC_AVDD_0V9 (power) "USIC 0.9V Power Supply", AJ30 USIC_STROBE (io) "USIC Strobe", AJ31 USIC_DATA (io) "USIC Data"
part X pins: F28 GPIO2_A3/VOP_D3/CIF_D3 (io) "GPIO2_A3 // VOP_D3 // CIF_D3 (Camera Interface Input Pixel Data)", F29 GPIO2_A5/VOP_D5/CIF_D5 (io) "GPIO2_A5 // VOP_D5 // CIF_D5 (Camera Interface Input Pixel Data)", F30 GPIO2_B1/SPI2_RXD/CIF_HREF/I2C6_SDA (io) "GPIO2_B1 // SPI2_RXD (SPI Serial Data Input) // Camera Interface Horizontal Sync) // I2C6_SDA (I2C Data Line)", F31 GPIO2_B4/SPI2_~{CS0} (io) "GPIO2_B4 // SP2_CSn0 (SPI 1st Chip Select)", G30 GPIO2_A7/VOP_D7/CIF_D7/I2C7_SDA (io) "GPIO2_A7 // VOP_D7 // CIF_D7 (Camera Interface Input Pixel Data) // I2C7 SDA (I2C Data Line)", G31 GPIO2_A0/VOP_D0/CIF_D0/I2C2_SDA (io) "GPIO2_A0 // VOP_D0 // CIF_D0 (Camera Interface Input Pixel Data) // I2C2_SDA (I2C Data Line)", H24 GPIO2_B2/SPI2_TXD/CIF_CLKIN/I2C6_SCL (io) "GPIO2_B2 // SPI2_TXD (SPI Serial Data Output) // CIF_CLKIN (Camera Interface Input Pixel Clock) // I2C6_SCL (I2C Serial Clock Line)", H25 GPIO2_A1/VOP_D1/CIF_D1/I2C2_SCL (io) "GPIO2_A1 // VOP_D1 // CIF_D1 (Camera Interface Input Pixel Data) // I2C2_SCL (I2C Serial Clock Line)", H27 GPIO2_A6/VOP_D6/CIF_D6 (io) "GPIO2_A6 // VOP_D6 // CIF_D6 (Camera Interface Input Pixel Data)", H28 GPIO2_B0/VOP_CLK/CIF_VSYNC/I2C7_SCL (io) "GPIO2_B0 // VOP_CLK // CIF_VSYNC (Camera Interface Vertical Sync) // I2C7_SCL (I2C Serial Clock Line)", H29 GPIO2_A4/VOP_D4/CIF_D4 (io) "GPIO2_A4 // VOP_D4 // CIF_D4 (Camera Interface Input Pixel Data)", H30 GPIO2_A2/VOP_D2/CIF_D2 (io) "GPIO2_A2 // VOP_D2 // CIF_D2 (Camera Interface Input Pixel Data)", H31 GPIO2_B3/SPI2_CLK/VOP_DEN/CIF_CLKOUTA (io) "GPIO2_B3 // SPI2_CLK (SPI Serial Clock) // VOP_DEN // CIF_CLKOUTA (Camera Interface Output Work Clock)", J24 APIO2_VDDPST (power) "GPIO Group 2 Bias", K23 APIO2_VDD (power) "GPIO Group 2 Digital Power"
part Y pins: B27 GPIO3_B7/MAC_CRS/UART3_TX/CIF_CLKOUTB (io) "GPIO3_B7 // MAC_CRS (PHY CRS Signal) // UART3_TX (UART Serial Data Output) // CIF_CLKOUTB (Camera Interface Output Work Clock)", C27 GPIO3_B1/MAC_RXDV (io) "GPIO3_B1 // MAC_RXDV (GMAC RX Data Valid)", D26 GPIO3_A4/MAC_TXD0/SPI0_RXD (io) "GPIO3_A4 // MAC_TXD0 (GMAC TX Data) // SPI0_RXD (SPI Serial Data Input)", D27 GPIO3_C0/MAC_COL/UART3_~{CTS}/SPDIF_TX (io) "GPIO3_C0 // MAC_COL (PHY Collision) // UART3_CTSn (UART Clear to Send) // SPDIF_TX (S/PDIF Bi-Phase Data Output)", E25 GPIO3_A3/MAC_RXD3/SPI4_~{CS0} (io) "GPIO3_A3 // MAC_RXD3 (GMAC RX Data) // SPI4_CSn0 (SPI 1st Chip Select)", E26 GPIO3_A6/MAC_RXD0/SPI0_CLK (io) "GPIO3_A6 // MAC_RXD0 (GMAC RX Data) // SPI0_CLK (SPI Serial Clock)", E28 GPIO3_C1/MAC_TXCLK/UART3_~{RTS} (io) "GPIO3_C1 // MAC_TXCLK (RGMII TX Clock Output) // UART3_RTSn (UART req to send)", E29 GPIO3_B0/MAC_MDC/SPIO_~{CS1} (io) "GPIO3_B0 // MAC_MDC (GMAC Mgt Interface Clock) // SPI0_CSn1 (SPI 2nd Chip Select Signal)", E30 GPIO3_A2/MAC_RXD2/SPI4_CLK (io) "GPIO3_A2 // MAC_RXD2 (GMAC RX Data) // SPI4_CLK (SPI Serial Clock)", F23 GPIO3_B2/MAC_RXER/I2C5_SDA (io) "GPIO3_B2 // MAC_RXER (GMAC RX Error) // I2C5_SDA (I2C Data Line)", F24 GPIO3_A0/MAC_TXD2/SPI4_RXD (io) "GPIO3_A0 // MAC_TXD2 (GMAC TX Data) // SPI4_RXD (SPI Serial Data Input)", F25 GPIO3_B6/MAC_RXCLK/UART3_RX (io) "GPIO3_B6 // MAC_RXCLK (RGMII RX Clock Input) // UART_RX (UART Serial Data Input)", F27 GPIO3_A7/MAC_RXD1/SPI0_~{CS0} (io) "GPIO3_A7 // MAC_RXD1 (GMAC RX Data) // SPI0_CSn0 (SPI 1st Chip Select)", G23 GPIO3_A5/MAC_TXD1/SPI0_TXD (io) "GPIO3_A5 // MAC_TXD1 (GMAC TX Data) // SPI0_TXD (SPI Serial Data Output)", G24 GPIO3_B3/MAC_CLK/I2C5_SCL (io) "GPIO3_B3 // MAC_CLK (RMII REC_CLK Output or GMAC ext clk output) // I2C5_SCL (I2C Data Line)", G26 GPIO3_B5/MAC_MDIO/UART1_TX (io) "GPIO3_B5 // MAC_MDIO (GMAC Mgt Interface Data) // UART1_TX (UART Serial Data Output)", H22 GPIO3_B4/MAC_TXEN/UART1_RX (io) "GPIO3_B4 // MAC_TXEN (GMAC TX Data Enable) // UART1_RX (UART Serial Data Input)", H23 GPIO3_A1/MAC_TXD3/SPI4_TXD (io) "GPIO3_A1 // MAC_TXD3 (GMAC TX Data) // SPI4_TXD (SPI Serial Data Output)", J22 APIO1_VDDPST (power) "GPIO Group 1 Bias", J23 APIO1_VDD (power) "GPIO Group 1 Digital Power"